# Altium schematic symbol library SchematicLibrary.SchLib: 19 symbols
Pins are listed as number, name and electrical type; pins without a type are passive.

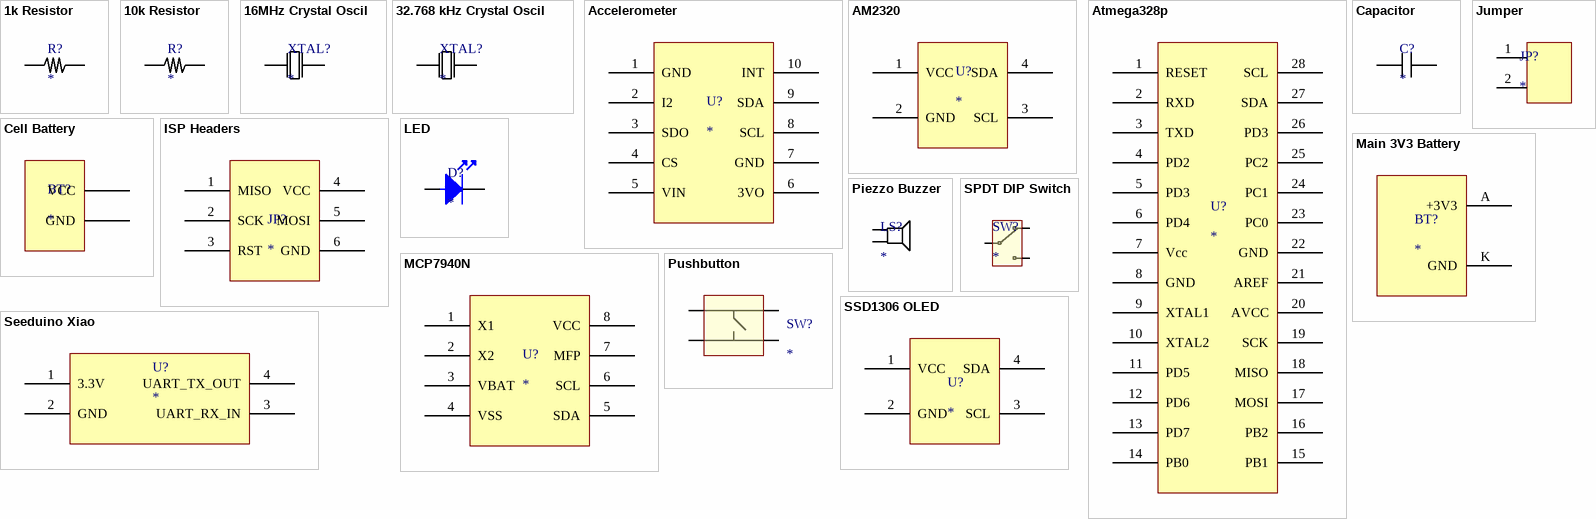
[diagram p0: symbols 1k Resistor to SSD1306 OLED]

## 1k Resistor
designator R?
footprint Resistor
pins: 1, 2

## 10k Resistor
designator R?
footprint Resistor
pins: 1, 2

## 16MHz Crystal Oscil
designator XTAL?
footprint 16MHz Crystal
pins: 1, 2

## 32.768 kHz Crystal Oscil
designator XTAL?
footprint 32.768kHz
pins: 1, 2

## Accelerometer
designator U?
footprint Accel
pins: 1 GND, 2 I2, 3 SDO, 4 CS, 5 VIN, 6 3VO, 7 GND, 8 SCL, 9 SDA, 10 INT

## AM2320
designator U?
footprint AM2320
pins: 1 VCC, 2 GND, 3 SCL, 4 SDA

## Atmega328p
designator U?
footprint Atmega328p
pins: 1 RESET, 2 RXD, 3 TXD, 4 PD2, 5 PD3, 6 PD4, 7 Vcc, 8 GND, 9 XTAL1, 10 XTAL2, 11 PD5, 12 PD6, 13 PD7, 14 PB0, 15 PB1, 16 PB2, 17 MOSI, 18 MISO, 19 SCK, 20 AVCC, 21 AREF, 22 GND, 23 PC0, 24 PC1, 25 PC2, 26 PD3, 27 SDA, 28 SCL

## Capacitor
designator C?
footprint Capacitor
pins: 1, 2

## Cell Battery
designator BT?
footprint Cell Holder
pins: A VCC, K GND

## ISP Headers
designator JP?
footprint ISP Header
pins: 1 MISO, 2 SCK, 3 RST, 4 VCC, 5 MOSI, 6 GND

## Jumper
designator JP?
footprint Jumper
pins: 1 VCC, 2 GND

## LED
designator D?
footprint LED
pins: A, K

## Main 3V3 Battery
designator BT?
footprint Main Battery Pins
pins: A +3V3, K GND

## MCP7940N
designator U?
footprint MCP7940N
pins: 1 X1, 2 X2, 3 VBAT, 4 VSS, 5 SDA, 6 SCL, 7 MFP, 8 VCC

## Piezzo Buzzer
designator LS?
footprint Piezzo Buzzer v2
pins: A, K

## Pushbutton
designator SW?
footprint Pushbutton
pins: 1, 2, 3, 4

## Seeduino Xiao
designator U?
footprint Seeduino Xiao
pins: 1 3.3V, 2 GND, 3 UART_RX_IN, 4 UART_TX_OUT

## SPDT DIP Switch
designator SW?
footprint SPDT
pins: 1, 2, 3

## SSD1306 OLED
designator U?
footprint SSD1306
pins: 1 VCC, 2 GND, 3 SCL, 4 SDA